# Altium footprint library AP7363-33D-13.PcbLib: 3 footprints
Each footprint in its own frame and in the unit in brackets; x right, y up, seen from the top. Pads: shape width x height; smd on the part's side, far side on the other; paste and mask are expansions set on the pad; w line width, h text height; cw(c..) or ccw(c..) is an arc to the next point about the centre after c.
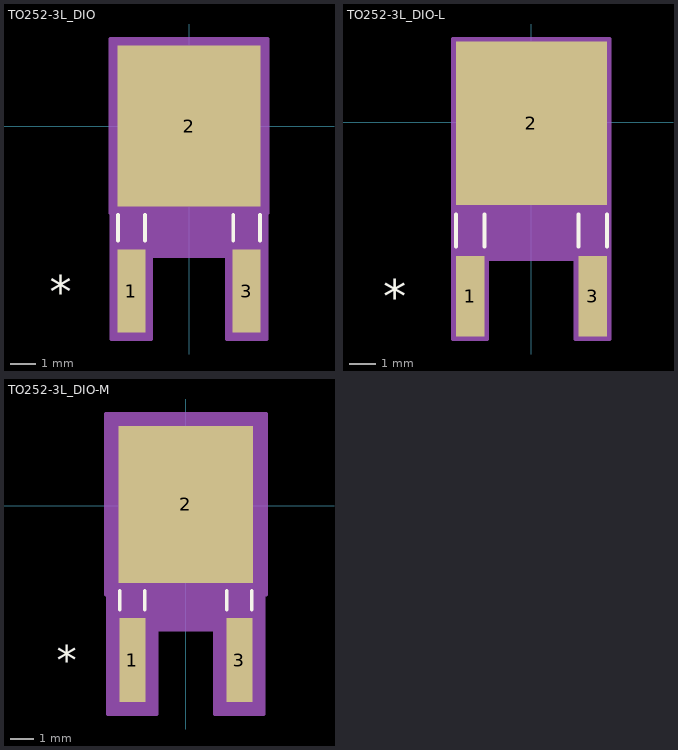
[diagram p0: the footprints below, top view; thin cyan lines are the x and y axes]

## TO252-3L_DIO [mil]
pads (3):
  rect 43.97x129.56 smd paste+0 mask+0: 1(-90,-258) 3(90,-258)
  rect 224x252 smd paste+0 mask+0: 2(0,0)
Top Overlay:
  lines w6: -111,-179.22 -111,-139.1 ; -69,-179.22 -69,-139.1 ; 69,-179.22 69,-139.1 ; 111,-179.22 111,-139.1
  text "*" at -217.5,-283 h50
Mechanical 13:
  lines w1: -111,-112 -69,-112 -69,-309 -111,-309 -111,-112 ; -111,-112 111,-112 ; -111,-112 -111,112 111,112 111,-112 ; 0,-112 0,-112 ; 0,-112 0,-112 ; 0,-112 0,-112 ; 111,-112 69,-112 69,-309 111,-309 111,-112
  text "*" at -102.5,-127 h50
Mechanical 15:
  region: -121,-136 -123,-136 -123,136 123,136 123,-136 121,-136 121,-332.78 59,-332.78 59,-203.22 -59,-203.22 -59,-332.78 -121,-332.78
  lines w6: -123,-136 -123,136 123,136 123,-136 121,-136 121,-332.78 59,-332.78 59,-203.22 -59,-203.22 -59,-332.78 -121,-332.78 -121,-136 -123,-136
3D body "TO252-3L_DIO.step": height 94.09, standoff -2.01, extent -110.98,-309.02 110.98,112.09

## TO252-3L_DIO-L [mil]
pads (3):
  rect 42x117.75 smd paste+0 mask+0: 1(-90,-256.03) 3(90,-256.03)
  rect 222x240 smd paste+0 mask+0: 2(0,-2)
Top Overlay:
  lines w6: -111,-183.16 -111,-136 ; -69,-183.16 -69,-136 ; 69,-183.16 69,-136 ; 111,-183.16 111,-136
  text "*" at -217.5,-281.03 h50
Mechanical 13:
  lines w1: -111,-112 -69,-112 -69,-309 -111,-309 -111,-112 ; -111,-112 111,-112 ; -111,-112 -111,112 111,112 111,-112 ; 0,-112 0,-112 ; 0,-112 0,-112 ; 0,-112 0,-112 ; 111,-112 69,-112 69,-309 111,-309 111,-112
  text "*" at -102.5,-127 h50
Mechanical 15:
  region: -115,-126 -115,122 115,122 115,-126 115,-318.91 65,-318.91 65,-201.16 -65,-201.16 -65,-318.91 -115,-318.91
  lines w6: -115,-126 -115,122 115,122 115,-126 ; -115,-126 -115,-318.91 -65,-318.91 -65,-201.16 65,-201.16 65,-318.91 115,-318.91 115,-126 ; -115,-126 -115,-126 ; 115,-126 115,-126
3D body "TO252-3L_DIO.step": height 94.09, standoff -2.01, extent -110.98,-309.02 110.98,112.09

## TO252-3L_DIO-M [mil]
pads (3):
  rect 43.97x141.37 smd paste+0 mask+0: 1(-90,-259.97) 3(90,-259.97)
  rect 226x264 smd paste+0 mask+0: 2(0,2)
Top Overlay:
  lines w6: -111,-175.28 -111,-143.1 ; -69,-175.28 -69,-143.1 ; 69,-175.28 69,-143.1 ; 111,-175.28 111,-143.1
  text "*" at -217.5,-284.97 h50
Mechanical 13:
  lines w1: -111,-112 -69,-112 -69,-309 -111,-309 -111,-112 ; -111,-112 111,-112 ; -111,-112 -111,112 111,112 111,-112 ; 0,-112 0,-112 ; 0,-112 0,-112 ; 0,-112 0,-112 ; 111,-112 69,-112 69,-309 111,-309 111,-112
  text "*" at -102.5,-127 h50
Mechanical 15:
  region: -131,-150 -135,-150 -135,154 135,154 135,-150 131,-150 131,-350.65 49,-350.65 49,-209.28 -49,-209.28 -49,-350.65 -131,-350.65
  lines w6: -135,-150 -135,154 135,154 135,-150 131,-150 131,-350.65 49,-350.65 49,-209.28 -49,-209.28 -49,-350.65 -131,-350.65 -131,-150 -135,-150
3D body "TO252-3L_DIO.step": height 94.09, standoff -2.01, extent -110.98,-309.02 110.98,112.09